# Altium integrated library ON Semi Digital Transistors (BRTs).IntLib: 470 symbols (part 11 of 11)
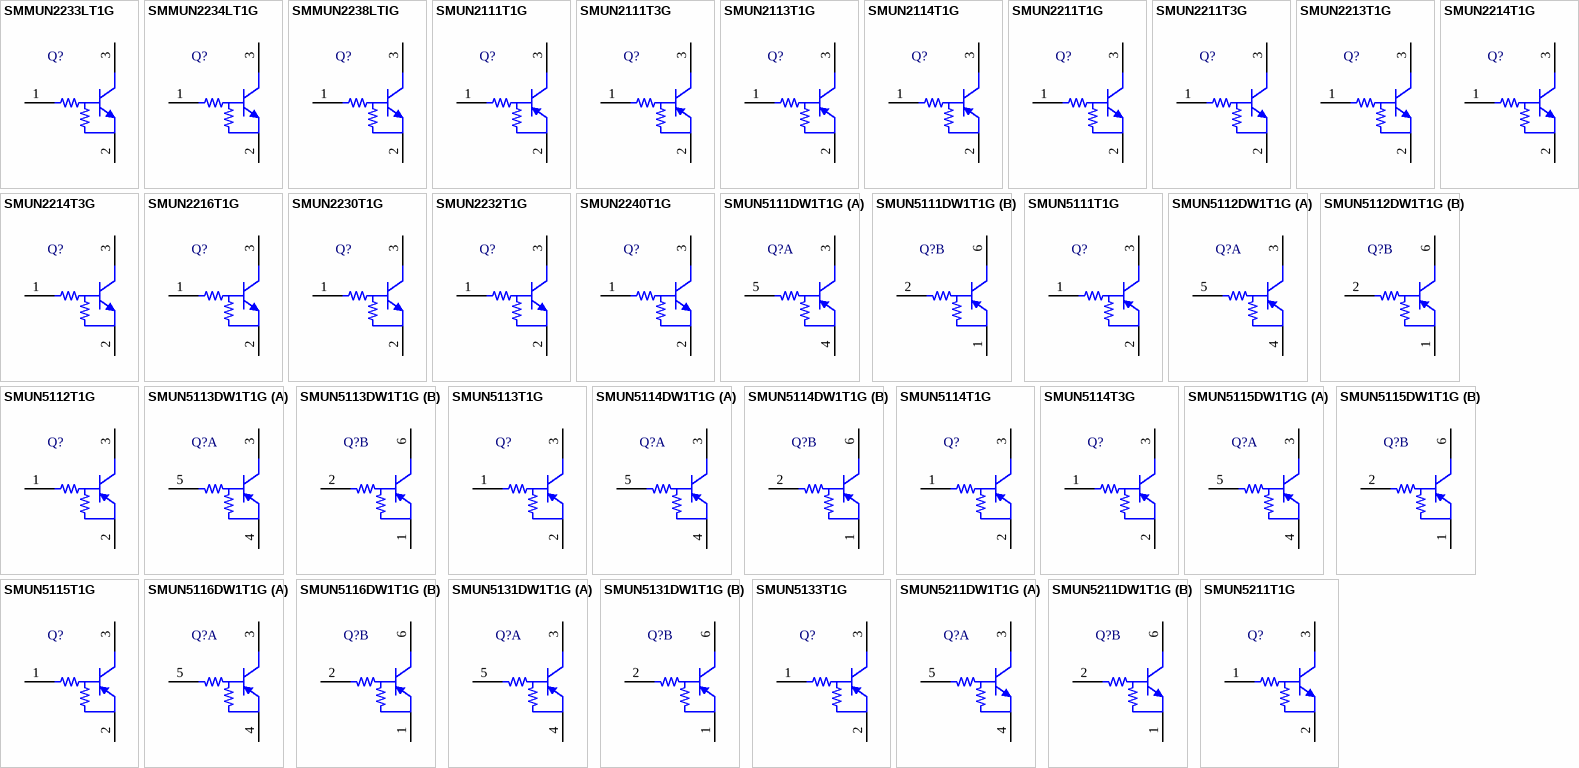
[diagram p26: symbols SMMUN2233LT1G to SMUN5211T1G]

## SMUN5113T1G
designator Q?
Digital Transistor (BRT), R1=47 kOhm, R2=47 kOhm, PNP Transistor, 3-Pin SC70, Pb-Free, Tape and Reel; Manufacturer: On Semiconductor; PartNumber: SMUN5113T1G; hFE Min: 80; IC Continuous (A): 0.1; R1/R2 Typ: 1; V(BR)CEO Min (V): 50; DatasheetVersion: Rev. 2; PackageVersion: Rev. N, 11/2008; PackageReference: SC-70-3-419-04; PackageDescription: 3-Pin Small Outline Transistor, Body 2 x 1.25 mm, Pitch 0.65 mm; Supplier 1: Digi-Key; Supplier Part Number 1: SMUN5113T1G-ND; Supplier 2: Mouser; Supplier Part Number 2: 863-SMUN5113T1G; Packing: Tape and Reel; Polarity: PNP; RoHS: TRUE; Mounting Technology: Surface Mount; ComponentLink1Description: Manufacturer URL; ComponentLink1URL: http://www.onsemi.com/; ComponentLink2Description: Datasheet; ComponentLink2URL: http://www.onsemi.cn/pub_link/Collateral/DTA144E-D.PDF; ComponentLink3Description: Package Specification; ComponentLink3URL: http://www.onsemi.cn/pub_link/Collateral/419-04.PDF
footprint ONSC-SC-70-3-419-04_V (SOT23, 3-Leads, Body 2x1.25mm, Pitch 0.65mm)
pins: 1 B, 2 E, 3 C

## SMUN5114DW1T1G
designator Q?
Dual PNP Bias Resistor Transistors, R1=10 kOhm, R2=47 kOhm, PNP Transistor, 6-Pin SOT-363, Pb-Free, Tape and Reel; Manufacturer: On Semiconductor; PartNumber: SMUN5114DW1T1G; hFE Min: 80; IC Continuous (A): 0.1; R1/R2 Typ: 0.21; V(BR)CEO Min (V): 50; DatasheetVersion: Rev. 0; PackageVersion: Rev. W, 01/2006; PackageReference: SOT-363-6-419B-02_W; PackageDescription: 6-Pin Small Outline Transistor, Body 2 x 1.25 mm, Pitch 0.65 mm; Supplier 1: Digi-Key; Supplier Part Number 1: SMUN5114DW1T1G-ND; Supplier 2: Mouser; Supplier Part Number 2: 863-SMUN5114DW1T1G; Packing: Tape and Reel; Polarity: Dual PNP; RoHS: TRUE; Mounting Technology: Surface Mount; ComponentLink1Description: Manufacturer URL; ComponentLink1URL: http://www.onsemi.com/; ComponentLink2Description: Datasheet; ComponentLink2URL: http://www.onsemi.cn/pub_link/Collateral/DTA114YD-D.PDF; ComponentLink3Description: Package Specification; ComponentLink3URL: http://www.onsemi.com/pub_link/Collateral/NTJD4001N-D.PDF
footprint ONSC-SOT-363-6-419B-02_W_V (SOT23, 6-Leads, Body 2x1.25mm, Pitch 0.65mm)
part A pins: 3 C, 4 E, 5 B
part B pins: 1 E, 2 B, 6 C

## SMUN5114T1G
designator Q?
Digital Transistor (BRT), R1=10 kOhm, R2=47 kOhm, PNP Transistor, 3-Pin SC70, Pb-Free, Tape and Reel; Manufacturer: On Semiconductor; PartNumber: SMUN5114T1G; hFE Min: 80; IC Continuous (A): 0.1; R1/R2 Typ: 0.21; V(BR)CEO Min (V): 50; DatasheetVersion: Rev. 2; PackageVersion: Rev. N, 11/2008; PackageReference: SC-70-3-419-04; PackageDescription: 3-Pin Small Outline Transistor, Body 2 x 1.25 mm, Pitch 0.65 mm; Supplier 1: Digi-Key; Supplier Part Number 1: SMUN5114T1G-ND; Supplier 2: Mouser; Supplier Part Number 2: 863-SMUN5114T1G; Packing: Tape and Reel; Polarity: PNP; RoHS: TRUE; Mounting Technology: Surface Mount; ComponentLink1Description: Manufacturer URL; ComponentLink1URL: http://www.onsemi.com/; ComponentLink2Description: Datasheet; ComponentLink2URL: http://www.onsemi.cn/pub_link/Collateral/DTA114Y-D.PDF; ComponentLink3Description: Package Specification; ComponentLink3URL: http://www.onsemi.cn/pub_link/Collateral/419-04.PDF
footprint ONSC-SC-70-3-419-04_V (SOT23, 3-Leads, Body 2x1.25mm, Pitch 0.65mm)
pins: 1 B, 2 E, 3 C

## SMUN5114T3G
designator Q?
Digital Transistor (BRT), R1=10 kOhm, R2=47 kOhm, PNP Transistor, 3-Pin SC70, Pb-Free, Tape and Reel; Manufacturer: On Semiconductor; PartNumber: SMUN5114T3G; hFE Min: 80; IC Continuous (A): 0.1; R1/R2 Typ: 0.21; V(BR)CEO Min (V): 50; DatasheetVersion: Rev. 2; PackageVersion: Rev. N, 11/2008; PackageReference: SC-70-3-419-04; PackageDescription: 3-Pin Small Outline Transistor, Body 2 x 1.25 mm, Pitch 0.65 mm; Supplier 1: Newark; Supplier Part Number 1: 11X3838; Supplier 2: Mouser; Supplier Part Number 2: 863-SMUN5114T3G; Packing: Tape and Reel; Polarity: PNP; RoHS: TRUE; Mounting Technology: Surface Mount; ComponentLink1Description: Manufacturer URL; ComponentLink1URL: http://www.onsemi.com/; ComponentLink2Description: Datasheet; ComponentLink2URL: http://www.onsemi.cn/pub_link/Collateral/DTA114Y-D.PDF; ComponentLink3Description: Package Specification; ComponentLink3URL: http://www.onsemi.cn/pub_link/Collateral/419-04.PDF
footprint ONSC-SC-70-3-419-04_V (SOT23, 3-Leads, Body 2x1.25mm, Pitch 0.65mm)
pins: 1 B, 2 E, 3 C

## SMUN5115DW1T1G
designator Q?
Dual PNP Bias Resistor Transistors, R1=10 kOhm, R2=infinity kOhm, PNP Transistor, 6-Pin SOT-363, Pb-Free, Tape and Reel; Manufacturer: On Semiconductor; PartNumber: SMUN5115DW1T1G; hFE Min: 160; IC Continuous (A): 0.1; V(BR)CEO Min (V): 50; DatasheetVersion: Rev. 0; PackageVersion: Rev. W, 01/2006; PackageReference: SOT-363-6-419B-02_W; PackageDescription: 6-Pin Small Outline Transistor, Body 2 x 1.25 mm, Pitch 0.65 mm; Supplier 1: Digi-Key; Supplier Part Number 1: SMUN5115DW1T1G-ND; Supplier 2: Mouser; Supplier Part Number 2: 863-SMUN5115DW1T1G; Packing: Tape and Reel; Polarity: Dual PNP; RoHS: TRUE; Mounting Technology: Surface Mount; ComponentLink1Description: Manufacturer URL; ComponentLink1URL: http://www.onsemi.com/; ComponentLink2Description: Datasheet; ComponentLink2URL: http://www.onsemi.cn/pub_link/Collateral/DTA114TD-D.PDF; ComponentLink3Description: Package Specification; ComponentLink3URL: http://www.onsemi.com/pub_link/Collateral/NTJD4001N-D.PDF
footprint ONSC-SOT-363-6-419B-02_W_V (SOT23, 6-Leads, Body 2x1.25mm, Pitch 0.65mm)
part A pins: 3 C, 4 E, 5 B
part B pins: 1 E, 2 B, 6 C

## SMUN5115T1G
designator Q?
Digital Transistor (BRT), R1=10 kOhm, R2=infinity kOhm, PNP Transistor, 3-Pin SC70, Pb-Free, Tape and Reel; Manufacturer: On Semiconductor; PartNumber: SMUN5115T1G; Note: 0; hFE Min: 160; IC Continuous (A): 0.1; V(BR)CEO Min (V): 50; DatasheetVersion: Rev. 2; PackageVersion: Rev. N, 11/2008; PackageReference: SC-70-3-419-04; PackageDescription: 3-Pin Small Outline Transistor, Body 2 x 1.25 mm, Pitch 0.65 mm; Packing: Tape and Reel; Polarity: PNP; RoHS: TRUE; Mounting Technology: Surface Mount; ComponentLink1Description: Manufacturer URL; ComponentLink1URL: http://www.onsemi.com/; ComponentLink2Description: Datasheet; ComponentLink2URL: http://www.onsemi.cn/pub_link/Collateral/DTA114T-D.PDF; ComponentLink3Description: Package Specification; ComponentLink3URL: http://www.onsemi.cn/pub_link/Collateral/419-04.PDF
footprint ONSC-SC-70-3-419-04_V (SOT23, 3-Leads, Body 2x1.25mm, Pitch 0.65mm)
pins: 1 B, 2 E, 3 C

## SMUN5116DW1T1G
designator Q?
Dual PNP Bias Resistor Transistors, R1=4.7 kOhm, R2=infinity kOhm, PNP Transistor, 6-Pin SOT-363, Pb-Free, Tape and Reel; Manufacturer: On Semiconductor; PartNumber: SMUN5116DW1T1G; hFE Min: 160; IC Continuous (A): 0.1; V(BR)CEO Min (V): 50; DatasheetVersion: Rev. 0; PackageVersion: Rev. W, 01/2006; PackageReference: SOT-363-6-419B-02_W; PackageDescription: 6-Pin Small Outline Transistor, Body 2 x 1.25 mm, Pitch 0.65 mm; Supplier 1: Digi-Key; Supplier Part Number 1: SMUN5116DW1T1G-ND; Supplier 2: Mouser; Supplier Part Number 2: 863-SMUN5116DW1T1G; Packing: Tape and Reel; Polarity: Dual PNP; RoHS: TRUE; Mounting Technology: Surface Mount; ComponentLink1Description: Manufacturer URL; ComponentLink1URL: http://www.onsemi.com/; ComponentLink2Description: Datasheet; ComponentLink2URL: http://www.onsemi.cn/pub_link/Collateral/DTA143TD-D.PDF; ComponentLink3Description: Package Specification; ComponentLink3URL: http://www.onsemi.com/pub_link/Collateral/NTJD4001N-D.PDF
footprint ONSC-SOT-363-6-419B-02_W_V (SOT23, 6-Leads, Body 2x1.25mm, Pitch 0.65mm)
part A pins: 3 C, 4 E, 5 B
part B pins: 1 E, 2 B, 6 C

## SMUN5131DW1T1G
designator Q?
Dual PNP Bias Resistor Transistors, R1=2.2 kOhm, R2=2.2 kOhm, PNP Transistor, 6-Pin SOT-363, Pb-Free, Tape and Reel; Manufacturer: On Semiconductor; PartNumber: SMUN5131DW1T1G; Note: 0; hFE Min: 8; IC Continuous (A): 0.1; R1/R2 Typ: 1; V(BR)CEO Min (V): 50; DatasheetVersion: Rev. 0; PackageVersion: Rev. W, 01/2006; PackageReference: SOT-363-6-419B-02_W; PackageDescription: 6-Pin Small Outline Transistor, Body 2 x 1.25 mm, Pitch 0.65 mm; Packing: Tape and Reel; Polarity: Dual PNP; RoHS: TRUE; Mounting Technology: Surface Mount; ComponentLink1Description: Manufacturer URL; ComponentLink1URL: http://www.onsemi.com/; ComponentLink2Description: Datasheet; ComponentLink2URL: http://www.onsemi.cn/pub_link/Collateral/DTA123ED-D.PDF; ComponentLink3Description: Package Specification; ComponentLink3URL: http://www.onsemi.com/pub_link/Collateral/NTJD4001N-D.PDF
footprint ONSC-SOT-363-6-419B-02_W_V (SOT23, 6-Leads, Body 2x1.25mm, Pitch 0.65mm)
part A pins: 3 C, 4 E, 5 B
part B pins: 1 E, 2 B, 6 C

## SMUN5133T1G
designator Q?
Digital Transistor (BRT), R1=4.7 kOhm, R2=47 kOhm, PNP Transistor, 3-Pin SC70, Pb-Free, Tape and Reel; Manufacturer: On Semiconductor; PartNumber: SMUN5133T1G; hFE Min: 80; IC Continuous (A): 0.1; V(BR)CEO Min (V): 50; DatasheetVersion: Rev. 6; PackageVersion: Rev. N, 11/2008; PackageReference: SC-70-3-419-04; PackageDescription: 3-Pin Small Outline Transistor, Body 2 x 1.25 mm, Pitch 0.65 mm; Supplier 1: Digi-Key; Supplier Part Number 1: SMUN5133T1G-ND; Supplier 2: Mouser; Supplier Part Number 2: 863-SMUN5133T1G; Packing: Tape and Reel; Polarity: PNP; R1/R2 Typ: 0.1; RoHS: TRUE; Mounting Technology: Surface Mount; ComponentLink1Description: Manufacturer URL; ComponentLink1URL: http://www.onsemi.com/; ComponentLink2Description: Datasheet; ComponentLink2URL: http://www.onsemi.cn/pub_link/Collateral/DTA143Z-D.PDF; ComponentLink3Description: Package Specification; ComponentLink3URL: http://www.onsemi.cn/pub_link/Collateral/419-04.PDF
footprint ONSC-SC-70-3-419-04_V (SOT23, 3-Leads, Body 2x1.25mm, Pitch 0.65mm)
pins: 1 B, 2 E, 3 C

## SMUN5211DW1T1G
designator Q?
Dual NPN Bias Resistor Transistors, R1=10 kOhm, R2=10 kOhm, NPN Transistor, 6-Pin SOT-363, Pb-Free, Tape and Reel; Manufacturer: On Semiconductor; PartNumber: SMUN5211DW1T1G; hFE Min: 35; IC Continuous (A): 0.1; R1/R2 Typ: 1; V(BR)CEO Min (V): 50; DatasheetVersion: Rev. 1; PackageVersion: Rev. Y, 12/2012; PackageReference: SOT-363-6-419B-02; PackageDescription: 6-Pin Small Outline Transistor, Body 2 x 1.25 mm, Pitch 0.65 mm; Supplier 1: Digi-Key; Supplier Part Number 1: SMUN5211DW1T1G-ND; Supplier 2: Newark; Supplier Part Number 2: 76T7363; Supplier 3: Mouser; Supplier Part Number 3: 863-SMUN5211DW1T1G; Packing: Tape and Reel; Polarity: Dual NPN; RoHS: TRUE; Mounting Technology: Surface Mount; ComponentLink1Description: Manufacturer URL; ComponentLink1URL: http://www.onsemi.com/; ComponentLink2Description: Datasheet; ComponentLink2URL: http://www.onsemi.cn/pub_link/Collateral/DTC114ED-D.PDF; ComponentLink3Description: Package Specification; ComponentLink3URL: http://www.onsemi.cn/pub_link/Collateral/419B-02.PDF
footprint ONSC-SOT-363-6-419B-02_V (SOT23, 6-Leads, Body 2x1.25mm, Pitch 0.65mm)
part A pins: 3 C, 4 E, 5 B
part B pins: 1 E, 2 B, 6 C

## SMUN5211T1G
designator Q?
Digital Transistor (BRT), R1=10 kOhm, R2=10 kOhm, NPN Transistor, 3-Pin SC70, Pb-Free, Tape and Reel; Manufacturer: On Semiconductor; PartNumber: SMUN5211T1G; hFE Min: 35; IC Continuous (A): 0.1; R1/R2 Typ: 1; V(BR)CEO Min (V): 50; DatasheetVersion: Rev. 5; PackageVersion: Rev. N, 11/2008; PackageReference: SC-70-3-419-04; PackageDescription: 3-Pin Small Outline Transistor, Body 2 x 1.25 mm, Pitch 0.65 mm; Supplier 1: Digi-Key; Supplier Part Number 1: SMUN5211T1G-ND; Supplier 2: Mouser; Supplier Part Number 2: 863-SMUN5211T1G; Packing: Tape and Reel; Polarity: NPN; RoHS: TRUE; Mounting Technology: Surface Mount; ComponentLink1Description: Manufacturer URL; ComponentLink1URL: http://www.onsemi.com/; ComponentLink2Description: Datasheet; ComponentLink2URL: http://www.onsemi.cn/pub_link/Collateral/DTC114E-D.PDF; ComponentLink3Description: Package Specification; ComponentLink3URL: http://www.onsemi.cn/pub_link/Collateral/419-04.PDF
footprint ONSC-SC-70-3-419-04_V (SOT23, 3-Leads, Body 2x1.25mm, Pitch 0.65mm)
pins: 1 B, 2 E, 3 C

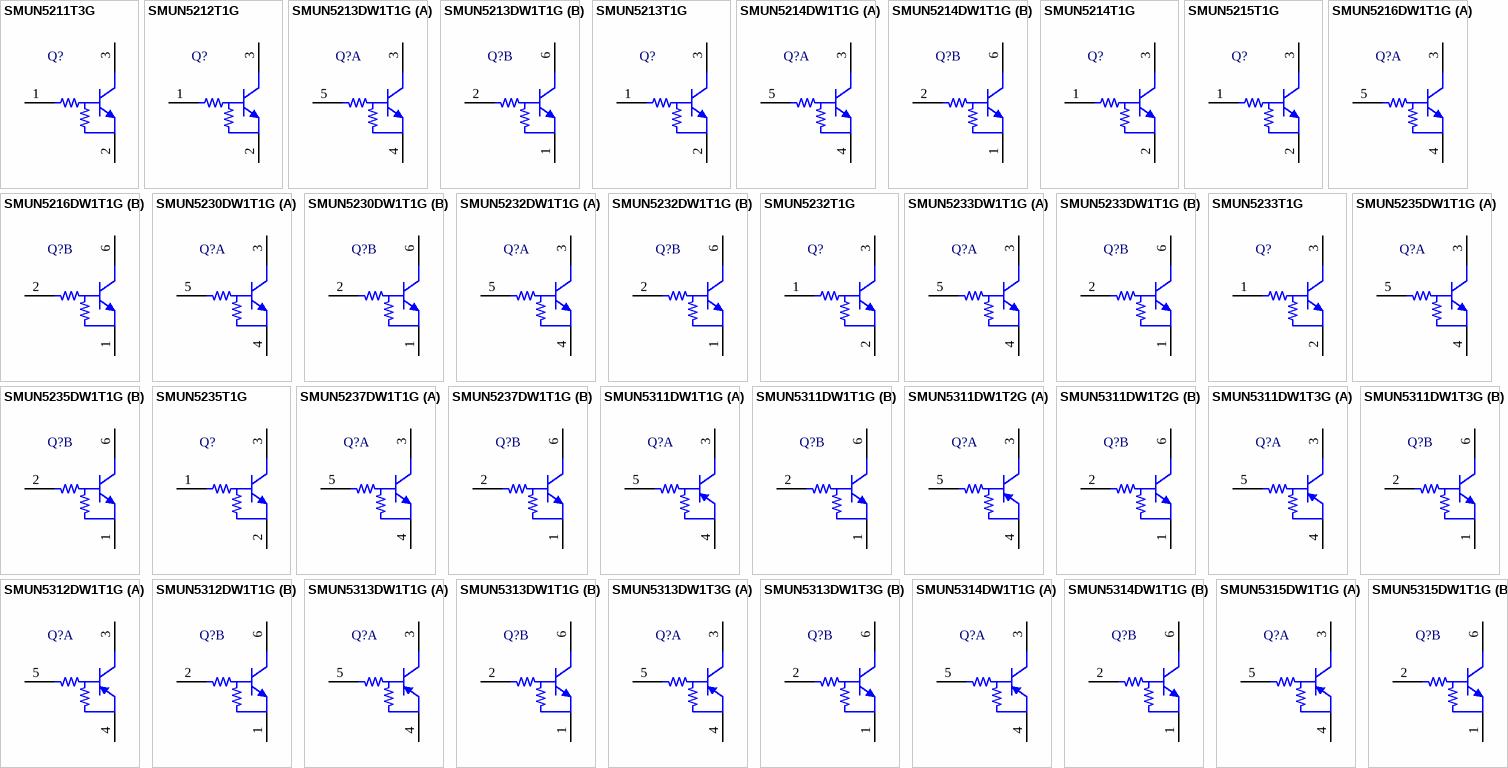
[diagram p15: symbols SMUN5211T3G to SMUN5315DW1T1G]

## SMUN5211T3G
designator Q?
Digital Transistor (BRT), R1=10 kOhm, R2=10 kOhm, NPN Transistor, 3-Pin SC70, Pb-Free, Tape and Reel; Manufacturer: On Semiconductor; PartNumber: SMUN5211T3G; hFE Min: 35; IC Continuous (A): 0.1; R1/R2 Typ: 1; V(BR)CEO Min (V): 50; DatasheetVersion: Rev. 5; PackageVersion: Rev. N, 11/2008; PackageReference: SC-70-3-419-04; PackageDescription: 3-Pin Small Outline Transistor, Body 2 x 1.25 mm, Pitch 0.65 mm; Supplier 1: Digi-Key; Supplier Part Number 1: SMUN5211T3G-ND; Supplier 2: Newark; Supplier Part Number 2: 76T7365; Supplier 3: Mouser; Supplier Part Number 3: 863-SMUN5211T3G; Packing: Tape and Reel; Polarity: NPN; RoHS: TRUE; Mounting Technology: Surface Mount; ComponentLink1Description: Manufacturer URL; ComponentLink1URL: http://www.onsemi.com/; ComponentLink2Description: Datasheet; ComponentLink2URL: http://www.onsemi.cn/pub_link/Collateral/DTC114E-D.PDF; ComponentLink3Description: Package Specification; ComponentLink3URL: http://www.onsemi.cn/pub_link/Collateral/419-04.PDF
footprint ONSC-SC-70-3-419-04_V (SOT23, 3-Leads, Body 2x1.25mm, Pitch 0.65mm)
pins: 1 B, 2 E, 3 C

## SMUN5212T1G
designator Q?
Digital Transistor (BRT), R1=22 kOhm, R2=22 kOhm, NPN Transistor, 3-Pin SC70, Pb-Free, Tape and Reel; Manufacturer: On Semiconductor; PartNumber: SMUN5212T1G; hFE Min: 60; IC Continuous (A): 0.1; R1/R2 Typ: 1; V(BR)CEO Min (V): 50; DatasheetVersion: Rev. 2; PackageVersion: Rev. N, 11/2008; PackageReference: SC-70-3-419-04; PackageDescription: 3-Pin Small Outline Transistor, Body 2 x 1.25 mm, Pitch 0.65 mm; Supplier 1: Digi-Key; Supplier Part Number 1: SMUN5212T1G-ND; Supplier 2: Newark; Supplier Part Number 2: 76T7366; Supplier 3: Mouser; Supplier Part Number 3: 863-SMUN5212T1G; Packing: Tape and Reel; Polarity: NPN; RoHS: TRUE; Mounting Technology: Surface Mount; ComponentLink1Description: Manufacturer URL; ComponentLink1URL: http://www.onsemi.com/; ComponentLink2Description: Datasheet; ComponentLink2URL: http://www.onsemi.cn/pub_link/Collateral/DTC124E-D.PDF; ComponentLink3Description: Package Specification; ComponentLink3URL: http://www.onsemi.cn/pub_link/Collateral/419-04.PDF
footprint ONSC-SC-70-3-419-04_V (SOT23, 3-Leads, Body 2x1.25mm, Pitch 0.65mm)
pins: 1 B, 2 E, 3 C

## SMUN5213DW1T1G
designator Q?
Dual NPN Bias Resistor Transistors, R1=47 kOhm, R2=47 kOhm, NPN Transistor, 6-Pin SOT-363, Pb-Free, Tape and Reel; Manufacturer: On Semiconductor; PartNumber: SMUN5213DW1T1G; hFE Min: 80; IC Continuous (A): 0.1; R1/R2 Typ: 1; V(BR)CEO Min (V): 50; DatasheetVersion: Rev. 0; PackageVersion: Rev. W, 01/2006; PackageReference: SOT-363-6-419B-02_W; PackageDescription: 6-Pin Small Outline Transistor, Body 2 x 1.25 mm, Pitch 0.65 mm; Supplier 1: Digi-Key; Supplier Part Number 1: SMUN5213DW1T1G-ND; Supplier 2: Mouser; Supplier Part Number 2: 863-SMUN5213DW1T1G; Packing: Tape and Reel; Polarity: Dual NPN; RoHS: TRUE; Mounting Technology: Surface Mount; ComponentLink1Description: Manufacturer URL; ComponentLink1URL: http://www.onsemi.com/; ComponentLink2Description: Datasheet; ComponentLink2URL: http://www.onsemi.cn/pub_link/Collateral/DTC144ED-D.PDF; ComponentLink3Description: Package Specification; ComponentLink3URL: http://www.onsemi.com/pub_link/Collateral/NTJD4001N-D.PDF
footprint ONSC-SOT-363-6-419B-02_W_V (SOT23, 6-Leads, Body 2x1.25mm, Pitch 0.65mm)
part A pins: 3 C, 4 E, 5 B
part B pins: 1 E, 2 B, 6 C

## SMUN5213T1G
designator Q?
Digital Transistor (BRT), R1=47 kOhm, R2=47 kOhm, NPN Transistor, 3-Pin SC70, Pb-Free, Tape and Reel; Manufacturer: On Semiconductor; PartNumber: SMUN5213T1G; hFE Min: 80; IC Continuous (A): 0.1; R1/R2 Typ: 1; V(BR)CEO Min (V): 50; DatasheetVersion: Rev. 2; PackageVersion: Rev. N, 11/2008; PackageReference: SC-70-3-419-04; PackageDescription: 3-Pin Small Outline Transistor, Body 2 x 1.25 mm, Pitch 0.65 mm; Supplier 1: Digi-Key; Supplier Part Number 1: SMUN5213T1G-ND; Supplier 2: Mouser; Supplier Part Number 2: 863-SMUN5213T1G; Packing: Tape and Reel; Polarity: NPN; RoHS: TRUE; Mounting Technology: Surface Mount; ComponentLink1Description: Manufacturer URL; ComponentLink1URL: http://www.onsemi.com/; ComponentLink2Description: Datasheet; ComponentLink2URL: http://www.onsemi.cn/pub_link/Collateral/DTC144E-D.PDF; ComponentLink3Description: Package Specification; ComponentLink3URL: http://www.onsemi.cn/pub_link/Collateral/419-04.PDF
footprint ONSC-SC-70-3-419-04_V (SOT23, 3-Leads, Body 2x1.25mm, Pitch 0.65mm)
pins: 1 B, 2 E, 3 C

## SMUN5214DW1T1G
designator Q?
Dual NPN Bias Resistor Transistors, R1=10 kOhm, R2=47 kOhm, NPN Transistor, 6-Pin SOT-363, Pb-Free, Tape and Reel; Manufacturer: On Semiconductor; PartNumber: SMUN5214DW1T1G; hFE Min: 80; IC Continuous (A): 0.1; R1/R2 Typ: 0.21; V(BR)CEO Min (V): 50; DatasheetVersion: Rev. 0; PackageVersion: Rev. W, 01/2006; PackageReference: SOT-363-6-419B-02_W; PackageDescription: 6-Pin Small Outline Transistor, Body 2 x 1.25 mm, Pitch 0.65 mm; Supplier 1: Digi-Key; Supplier Part Number 1: SMUN5214DW1T1G-ND; Supplier 2: Mouser; Supplier Part Number 2: 863-SMUN5214DW1T1G; Packing: Tape and Reel; Polarity: Dual NPN; RoHS: TRUE; Mounting Technology: Surface Mount; ComponentLink1Description: Manufacturer URL; ComponentLink1URL: http://www.onsemi.com/; ComponentLink2Description: Datasheet; ComponentLink2URL: http://www.onsemi.cn/pub_link/Collateral/DTC114YD-D.PDF; ComponentLink3Description: Package Specification; ComponentLink3URL: http://www.onsemi.com/pub_link/Collateral/NTJD4001N-D.PDF
footprint ONSC-SOT-363-6-419B-02_W_V (SOT23, 6-Leads, Body 2x1.25mm, Pitch 0.65mm)
part A pins: 3 C, 4 E, 5 B
part B pins: 1 E, 2 B, 6 C

## SMUN5214T1G
designator Q?
Digital Transistor (BRT), R1=10 kOhm, R2=47 kOhm, NPN Transistor, 3-Pin SC70, Pb-Free, Tape and Reel; Manufacturer: On Semiconductor; PartNumber: SMUN5214T1G; hFE Min: 80; IC Continuous (A): 0.1; R1/R2 Typ: 0.21; V(BR)CEO Min (V): 50; DatasheetVersion: Rev. 3; PackageVersion: Rev. N, 11/2008; PackageReference: SC-70-3-419-04; PackageDescription: 3-Pin Small Outline Transistor, Body 2 x 1.25 mm, Pitch 0.65 mm; Supplier 1: Digi-Key; Supplier Part Number 1: SMUN5214T1G-ND; Supplier 2: Mouser; Supplier Part Number 2: 863-SMUN5214T1G; Packing: Tape and Reel; Polarity: NPN; RoHS: TRUE; Mounting Technology: Surface Mount; ComponentLink1Description: Manufacturer URL; ComponentLink1URL: http://www.onsemi.com/; ComponentLink2Description: Datasheet; ComponentLink2URL: http://www.onsemi.cn/pub_link/Collateral/DTC114Y-D.PDF; ComponentLink3Description: Package Specification; ComponentLink3URL: http://www.onsemi.cn/pub_link/Collateral/419-04.PDF
footprint ONSC-SC-70-3-419-04_V (SOT23, 3-Leads, Body 2x1.25mm, Pitch 0.65mm)
pins: 1 B, 2 E, 3 C

## SMUN5215T1G
designator Q?
Digital Transistor (BRT), R1=10 kOhm, R2=infinity kOhm, NPN Transistor, 3-Pin SC70, Pb-Free, Tape and Reel; Manufacturer: On Semiconductor; PartNumber: SMUN5215T1G; Note: 0; hFE Min: 160; IC Continuous (A): 0.1; V(BR)CEO Min (V): 50; DatasheetVersion: Rev. 1; PackageVersion: Rev. N, 11/2008; PackageReference: SC-70-3-419-04; PackageDescription: 3-Pin Small Outline Transistor, Body 2 x 1.25 mm, Pitch 0.65 mm; Packing: Tape and Reel; Polarity: NPN; RoHS: TRUE; Mounting Technology: Surface Mount; ComponentLink1Description: Manufacturer URL; ComponentLink1URL: http://www.onsemi.com/; ComponentLink2Description: Datasheet; ComponentLink2URL: http://www.onsemi.cn/pub_link/Collateral/DTC114T-D.PDF; ComponentLink3Description: Package Specification; ComponentLink3URL: http://www.onsemi.cn/pub_link/Collateral/419-04.PDF
footprint ONSC-SC-70-3-419-04_V (SOT23, 3-Leads, Body 2x1.25mm, Pitch 0.65mm)
pins: 1 B, 2 E, 3 C

## SMUN5216DW1T1G
designator Q?
Dual NPN Bias Resistor Transistors, R1=4.7 kOhm, R2=infinity kOhm, NPN Transistor, 6-Pin SOT-363, Pb-Free, Tape and Reel; Manufacturer: On Semiconductor; PartNumber: SMUN5216DW1T1G; hFE Min: 160; IC Continuous (A): 0.1; V(BR)CEO Min (V): 50; DatasheetVersion: Rev. 0; PackageVersion: Rev. W, 01/2006; PackageReference: SOT-363-6-419B-02_W; PackageDescription: 6-Pin Small Outline Transistor, Body 2 x 1.25 mm, Pitch 0.65 mm; Supplier 1: Digi-Key; Supplier Part Number 1: SMUN5216DW1T1G-ND; Supplier 2: Mouser; Supplier Part Number 2: 863-SMUN5216DW1T1G; Packing: Tape and Reel; Polarity: Dual NPN; RoHS: TRUE; Mounting Technology: Surface Mount; ComponentLink1Description: Manufacturer URL; ComponentLink1URL: http://www.onsemi.com/; ComponentLink2Description: Datasheet; ComponentLink2URL: http://www.onsemi.cn/pub_link/Collateral/DTC143TD-D.PDF; ComponentLink3Description: Package Specification; ComponentLink3URL: http://www.onsemi.com/pub_link/Collateral/NTJD4001N-D.PDF
footprint ONSC-SOT-363-6-419B-02_W_V (SOT23, 6-Leads, Body 2x1.25mm, Pitch 0.65mm)
part A pins: 3 C, 4 E, 5 B
part B pins: 1 E, 2 B, 6 C

## SMUN5230DW1T1G
designator Q?
Dual NPN Bias Resistor Transistors, R1=1 kOhm, R2=1 kOhm, NPN Transistor, 6-Pin SOT-363, Pb-Free, Tape and Reel; Manufacturer: On Semiconductor; PartNumber: SMUN5230DW1T1G; hFE Min: 3; IC Continuous (A): 0.1; R1/R2 Typ: 1; V(BR)CEO Min (V): 50; DatasheetVersion: Rev. 0; PackageVersion: Rev. W, 01/2006; PackageReference: SOT-363-6-419B-02_W; PackageDescription: 6-Pin Small Outline Transistor, Body 2 x 1.25 mm, Pitch 0.65 mm; Supplier 1: Digi-Key; Supplier Part Number 1: SMUN5230DW1T1G-ND; Supplier 2: Mouser; Supplier Part Number 2: 863-SMUN5230DW1T1G; Packing: Tape and Reel; Polarity: Dual NPN; RoHS: TRUE; Mounting Technology: Surface Mount; ComponentLink1Description: Manufacturer URL; ComponentLink1URL: http://www.onsemi.com/; ComponentLink2Description: Datasheet; ComponentLink2URL: http://www.onsemi.cn/pub_link/Collateral/DTC113ED-D.PDF; ComponentLink3Description: Package Specification; ComponentLink3URL: http://www.onsemi.com/pub_link/Collateral/NTJD4001N-D.PDF
footprint ONSC-SOT-363-6-419B-02_W_V (SOT23, 6-Leads, Body 2x1.25mm, Pitch 0.65mm)
part A pins: 3 C, 4 E, 5 B
part B pins: 1 E, 2 B, 6 C

## SMUN5232DW1T1G
designator Q?
Dual NPN Bias Resistor Transistors, R1=4.7 kOhm, R2=4.7 kOhm, NPN Transistor, 6-Pin SOT-363, Pb-Free, Tape and Reel; Manufacturer: On Semiconductor; PartNumber: SMUN5232DW1T1G; hFE Min: 15; IC Continuous (A): 0.1; R1/R2 Typ: 1; V(BR)CEO Min (V): 50; DatasheetVersion: Rev. 0; PackageVersion: Rev. W, 01/2006; PackageReference: SOT-363-6-419B-02_W; PackageDescription: 6-Pin Small Outline Transistor, Body 2 x 1.25 mm, Pitch 0.65 mm; Supplier 1: Digi-Key; Supplier Part Number 1: SMUN5232DW1T1G-ND; Supplier 2: Mouser; Supplier Part Number 2: 863-SMUN5232DW1T1G; Packing: Tape and Reel; Polarity: Dual NPN; RoHS: TRUE; Mounting Technology: Surface Mount; ComponentLink1Description: Manufacturer URL; ComponentLink1URL: http://www.onsemi.com/; ComponentLink2Description: Datasheet; ComponentLink2URL: http://www.onsemi.cn/pub_link/Collateral/DTC143ED-D.PDF; ComponentLink3Description: Package Specification; ComponentLink3URL: http://www.onsemi.com/pub_link/Collateral/NTJD4001N-D.PDF
footprint ONSC-SOT-363-6-419B-02_W_V (SOT23, 6-Leads, Body 2x1.25mm, Pitch 0.65mm)
part A pins: 3 C, 4 E, 5 B
part B pins: 1 E, 2 B, 6 C

## SMUN5232T1G
designator Q?
Digital Transistor (BRT), R1=4.7 kOhm, R2=4.7 kOhm, NPN Transistor, 3-Pin SC70, Pb-Free, Tape and Reel; Manufacturer: On Semiconductor; PartNumber: SMUN5232T1G; hFE Min: 15; IC Continuous (A): 0.1; R1/R2 Typ: 1; V(BR)CEO Min (V): 50; DatasheetVersion: Rev. 2; PackageVersion: Rev. N, 11/2008; PackageReference: SC-70-3-419-04; PackageDescription: 3-Pin Small Outline Transistor, Body 2 x 1.25 mm, Pitch 0.65 mm; Supplier 1: Digi-Key; Supplier Part Number 1: SMUN5232T1G-ND; Supplier 2: Mouser; Supplier Part Number 2: 863-SMUN5232T1G; Packing: Tape and Reel; Polarity: NPN; RoHS: TRUE; Mounting Technology: Surface Mount; ComponentLink1Description: Manufacturer URL; ComponentLink1URL: http://www.onsemi.com/; ComponentLink2Description: Datasheet; ComponentLink2URL: http://www.onsemi.cn/pub_link/Collateral/DTC143E-D.PDF; ComponentLink3Description: Package Specification; ComponentLink3URL: http://www.onsemi.cn/pub_link/Collateral/419-04.PDF
footprint ONSC-SC-70-3-419-04_V (SOT23, 3-Leads, Body 2x1.25mm, Pitch 0.65mm)
pins: 1 B, 2 E, 3 C

## SMUN5233DW1T1G
designator Q?
Dual NPN Bias Resistor Transistors, R1=4.7 kOhm, R2=47 kOhm, NPN Transistor, 6-Pin SOT-363, Pb-Free, Tape and Reel; Manufacturer: On Semiconductor; PartNumber: SMUN5233DW1T1G; hFE Min: 80; IC Continuous (A): 0.1; V(BR)CEO Min (V): 50; DatasheetVersion: Rev. 1; PackageVersion: Rev. W, 01/2006; PackageReference: SOT-363-6-419B-02_W; PackageDescription: 6-Pin Small Outline Transistor, Body 2 x 1.25 mm, Pitch 0.65 mm; Supplier 1: Digi-Key; Supplier Part Number 1: SMUN5233DW1T1G-ND; Supplier 2: Mouser; Supplier Part Number 2: 863-SMUN5233DW1T1G; Packing: Tape and Reel; Polarity: Dual NPN; R1/R2 Typ: 0.1; RoHS: TRUE; Mounting Technology: Surface Mount; ComponentLink1Description: Manufacturer URL; ComponentLink1URL: http://www.onsemi.com/; ComponentLink2Description: Datasheet; ComponentLink2URL: http://www.onsemi.cn/pub_link/Collateral/DTC143ZD-D.PDF; ComponentLink3Description: Package Specification; ComponentLink3URL: http://www.onsemi.com/pub_link/Collateral/NTJD4001N-D.PDF
footprint ONSC-SOT-363-6-419B-02_W_V (SOT23, 6-Leads, Body 2x1.25mm, Pitch 0.65mm)
part A pins: 3 C, 4 E, 5 B
part B pins: 1 E, 2 B, 6 C

## SMUN5233T1G
designator Q?
Digital Transistor (BRT), R1=4.7 kOhm, R2=47 kOhm, NPN Transistor, 3-Pin SC70, Pb-Free, Tape and Reel; Manufacturer: On Semiconductor; PartNumber: SMUN5233T1G; hFE Min: 80; IC Continuous (A): 0.1; V(BR)CEO Min (V): 50; DatasheetVersion: Rev. 4; PackageVersion: Rev. N, 11/2008; PackageReference: SC-70-3-419-04; PackageDescription: 3-Pin Small Outline Transistor, Body 2 x 1.25 mm, Pitch 0.65 mm; Supplier 1: Digi-Key; Supplier Part Number 1: SMUN5233T1G-ND; Supplier 2: Mouser; Supplier Part Number 2: 863-SMUN5233T1G; Packing: Tape and Reel; Polarity: NPN; R1/R2 Typ: 0.1; RoHS: TRUE; Mounting Technology: Surface Mount; ComponentLink1Description: Manufacturer URL; ComponentLink1URL: http://www.onsemi.com/; ComponentLink2Description: Datasheet; ComponentLink2URL: http://www.onsemi.cn/pub_link/Collateral/DTC143Z-D.PDF; ComponentLink3Description: Package Specification; ComponentLink3URL: http://www.onsemi.cn/pub_link/Collateral/419-04.PDF
footprint ONSC-SC-70-3-419-04_V (SOT23, 3-Leads, Body 2x1.25mm, Pitch 0.65mm)
pins: 1 B, 2 E, 3 C

## SMUN5235DW1T1G
designator Q?
Dual NPN Bias Resistor Transistors, R1=2.2 kOhm, R2=47 kOhm, NPN Transistors, 6-Pin SOT-363, Pb-Free, Tape and Reel; Manufacturer: On Semiconductor; PartNumber: SMUN5235DW1T1G; hFE Min: 80; IC Continuous (A): 0.1; R1/R2 Typ: 0.047; V(BR)CEO Min (V): 50; DatasheetVersion: Rev. 0; PackageVersion: Rev. W, 01/2006; PackageReference: SOT-363-6-419B-02_W; PackageDescription: 6-Pin Small Outline Transistor, Body 2 x 1.25 mm, Pitch 0.65 mm; Supplier 1: Digi-Key; Supplier Part Number 1: SMUN5235DW1T1G-ND; Supplier 2: Mouser; Supplier Part Number 2: 863-SMUN5235DW1T1G; Packing: Tape and Reel; Polarity: Dual NPN; RoHS: TRUE; Mounting Technology: Surface Mount; ComponentLink1Description: Manufacturer URL; ComponentLink1URL: http://www.onsemi.com/; ComponentLink2Description: Datasheet; ComponentLink2URL: http://www.onsemi.cn/pub_link/Collateral/DTC123JD-D.PDF; ComponentLink3Description: Package Specification; ComponentLink3URL: http://www.onsemi.com/pub_link/Collateral/NTJD4001N-D.PDF
footprint ONSC-SOT-363-6-419B-02_W_V (SOT23, 6-Leads, Body 2x1.25mm, Pitch 0.65mm)
part A pins: 3 C, 4 E, 5 B
part B pins: 1 E, 2 B, 6 C

## SMUN5235T1G
designator Q?
Digital Transistor (BRT), R1=2.2 kOhm, R2=47 kOhm, NPN Transistor, 3-Pin SC70, Pb-Free, Tape and Reel; Manufacturer: On Semiconductor; PartNumber: SMUN5235T1G; hFE Min: 80; IC Continuous (A): 0.1; R1/R2 Typ: 0.047; V(BR)CEO Min (V): 50; DatasheetVersion: Rev. 1; PackageVersion: Rev. N, 11/2008; PackageReference: SC-70-3-419-04; PackageDescription: 3-Pin Small Outline Transistor, Body 2 x 1.25 mm, Pitch 0.65 mm; Supplier 1: Digi-Key; Supplier Part Number 1: SMUN5235T1G-ND; Supplier 2: Mouser; Supplier Part Number 2: 863-SMUN5235T1G; Packing: Tape and Reel; Polarity: NPN; RoHS: TRUE; Mounting Technology: Surface Mount; ComponentLink1Description: Manufacturer URL; ComponentLink1URL: http://www.onsemi.com/; ComponentLink2Description: Datasheet; ComponentLink2URL: http://www.onsemi.cn/pub_link/Collateral/DTC123J-D.PDF; ComponentLink3Description: Package Specification; ComponentLink3URL: http://www.onsemi.cn/pub_link/Collateral/419-04.PDF
footprint ONSC-SC-70-3-419-04_V (SOT23, 3-Leads, Body 2x1.25mm, Pitch 0.65mm)
pins: 1 B, 2 E, 3 C

## SMUN5237DW1T1G
designator Q?
Dual NPN Bias Resistor Transistors, R1=47 kOhm, R2=22 kOhm, NPN Transistor, 6-Pin SOT-363, Pb-Free, Tape and Reel; Manufacturer: On Semiconductor; PartNumber: SMUN5237DW1T1G; hFE Min: 80; IC Continuous (A): 0.1; R1/R2 Typ: 2.1; V(BR)CEO Min (V): 50; DatasheetVersion: Rev. 0; PackageVersion: Rev. W, 01/2006; PackageReference: SOT-363-6-419B-02_W; PackageDescription: 6-Pin Small Outline Transistor, Body 2 x 1.25 mm, Pitch 0.65 mm; Supplier 1: Digi-Key; Supplier Part Number 1: SMUN5237DW1T1G-ND; Supplier 2: Mouser; Supplier Part Number 2: 863-SMUN5237DW1T1G; Packing: Tape and Reel; Polarity: Dual NPN; RoHS: TRUE; Mounting Technology: Surface Mount; ComponentLink1Description: Manufacturer URL; ComponentLink1URL: http://www.onsemi.com/; ComponentLink2Description: Datasheet; ComponentLink2URL: http://www.onsemi.cn/pub_link/Collateral/DTC144WD-D.PDF; ComponentLink3Description: Package Specification; ComponentLink3URL: http://www.onsemi.com/pub_link/Collateral/NTJD4001N-D.PDF
footprint ONSC-SOT-363-6-419B-02_W_V (SOT23, 6-Leads, Body 2x1.25mm, Pitch 0.65mm)
part A pins: 3 C, 4 E, 5 B
part B pins: 1 E, 2 B, 6 C

## SMUN5311DW1T1G
designator Q?
Complementary Bias Resistor Transistors, R1=47 kOhm, R2=22 kOhm, NPN and PNP Transistors, 6-Pin SOT-363, Pb-Free, Tape and Reel; Manufacturer: On Semiconductor; PartNumber: SMUN5311DW1T1G; hFE Min: 35; IC Continuous (A): 0.1; R1/R2 Typ: 1; V(BR)CEO Min (V): 50; DatasheetVersion: Rev. 1; PackageVersion: Rev. W, 01/2006; PackageReference: SOT-363-6-419B-02_W; PackageDescription: 6-Pin Small Outline Transistor, Body 2 x 1.25 mm, Pitch 0.65 mm; Supplier 1: Digi-Key; Supplier Part Number 1: SMUN5311DW1T1GOSTR-ND; Supplier 2: Digi-Key; Supplier Part Number 2: SMUN5311DW1T1GOSCT-ND; Supplier 3: Digi-Key; Supplier Part Number 3: SMUN5311DW1T1GOSDKR-ND; Supplier 4: Newark; Supplier Part Number 4: 76T7379; Supplier 5: Mouser; Supplier Part Number 5: 863-SMUN5311DW1T1G; Packing: Tape and Reel; Polarity: Complementary; RoHS: TRUE; Mounting Technology: Surface Mount; ComponentLink1Description: Manufacturer URL; ComponentLink1URL: http://www.onsemi.com/; ComponentLink2Description: Datasheet; ComponentLink2URL: http://www.onsemi.cn/pub_link/Collateral/DTC114EP-D.PDF; ComponentLink3Description: Package Specification; ComponentLink3URL: http://www.onsemi.com/pub_link/Collateral/NTJD4001N-D.PDF
footprint ONSC-SOT-363-6-419B-02_W_V (SOT23, 6-Leads, Body 2x1.25mm, Pitch 0.65mm)
part A pins: 3 C, 4 E, 5 B
part B pins: 1 E, 2 B, 6 C

## SMUN5311DW1T2G
designator Q?
Complementary NPN and PNP Transistors, R1=10 kOhm, R2=10 kOhm, 6-Pin SOT-363, Pb-Free, Tape and Reel; Manufacturer: On Semiconductor; PartNumber: SMUN5311DW1T2G; hFE Min: 35; IC Continuous (A): 0.1; R1/R2 Typ: 1; V(BR)CEO Min (V): 50; DatasheetVersion: Rev. 1; PackageVersion: Rev. W, 01/2006; PackageReference: SOT-363-6-419B-02_W; PackageDescription: 6-Pin Small Outline Transistor, Body 2 x 1.25 mm, Pitch 0.65 mm; Supplier 1: Digi-Key; Supplier Part Number 1: SMUN5311DW1T2G-ND; Supplier 2: Newark; Supplier Part Number 2: 76T7380; Supplier 3: Mouser; Supplier Part Number 3: 863-SMUN5311DW1T2G; Packing: Tape and Reel; Polarity: Complementary; RoHS: TRUE; Mounting Technology: Surface Mount; ComponentLink1Description: Manufacturer URL; ComponentLink1URL: http://www.onsemi.com/; ComponentLink2Description: Datasheet; ComponentLink2URL: http://www.onsemi.cn/pub_link/Collateral/DTC114EP-D.PDF; ComponentLink3Description: Package Specification; ComponentLink3URL: http://www.onsemi.com/pub_link/Collateral/NTJD4001N-D.PDF
footprint ONSC-SOT-363-6-419B-02_W_V (SOT23, 6-Leads, Body 2x1.25mm, Pitch 0.65mm)
part A pins: 3 C, 4 E, 5 B
part B pins: 1 E, 2 B, 6 C

## SMUN5311DW1T3G
designator Q?
Complementary NPN and PNP Transistors, R1=10 kOhm, R2=10 kOhm, 6-Pin SOT-363, Pb-Free, Tape and Reel; Manufacturer: On Semiconductor; PartNumber: SMUN5311DW1T3G; hFE Min: 35; IC Continuous (A): 0.1; R1/R2 Typ: 1; V(BR)CEO Min (V): 50; DatasheetVersion: Rev. 1; PackageVersion: Rev. W, 01/2006; PackageReference: SOT-363-6-419B-02_W; PackageDescription: 6-Pin Small Outline Transistor, Body 2 x 1.25 mm, Pitch 0.65 mm; Supplier 1: Newark; Supplier Part Number 1: 11X3839; Supplier 2: Mouser; Supplier Part Number 2: 863-SMUN5311DW1T3G; Packing: Tape and Reel; Polarity: Complementary; RoHS: TRUE; Mounting Technology: Surface Mount; ComponentLink1Description: Manufacturer URL; ComponentLink1URL: http://www.onsemi.com/; ComponentLink2Description: Datasheet; ComponentLink2URL: http://www.onsemi.cn/pub_link/Collateral/DTC114EP-D.PDF; ComponentLink3Description: Package Specification; ComponentLink3URL: http://www.onsemi.com/pub_link/Collateral/NTJD4001N-D.PDF
footprint ONSC-SOT-363-6-419B-02_W_V (SOT23, 6-Leads, Body 2x1.25mm, Pitch 0.65mm)
part A pins: 3 C, 4 E, 5 B
part B pins: 1 E, 2 B, 6 C

## SMUN5312DW1T1G
designator Q?
Complementary Bias Resistor Transistors, R1=22 kOhm, R2=22 kOhm, NPN and PNP Transistors, 6-Pin SOT-363, Pb-Free, Tape and Reel; Manufacturer: On Semiconductor; PartNumber: SMUN5312DW1T1G; hFE Min: 60; IC Continuous (A): 0.1; R1/R2 Typ: 1; V(BR)CEO Min (V): 50; DatasheetVersion: Rev. 0; PackageVersion: Rev. W, 01/2006; PackageReference: SOT-363-6-419B-02_W; PackageDescription: 6-Pin Small Outline Transistor, Body 2 x 1.25 mm, Pitch 0.65 mm; Supplier 1: Digi-Key; Supplier Part Number 1: SMUN5312DW1T1G-ND; Supplier 2: Mouser; Supplier Part Number 2: 863-SMUN5312DW1T1G; Packing: Tape and Reel; Polarity: Complementary; RoHS: TRUE; Mounting Technology: Surface Mount; ComponentLink1Description: Manufacturer URL; ComponentLink1URL: http://www.onsemi.com/; ComponentLink2Description: Datasheet; ComponentLink2URL: http://www.onsemi.cn/pub_link/Collateral/DTC124EP-D.PDF; ComponentLink3Description: Package Specification; ComponentLink3URL: http://www.onsemi.com/pub_link/Collateral/NTJD4001N-D.PDF
footprint ONSC-SOT-363-6-419B-02_W_V (SOT23, 6-Leads, Body 2x1.25mm, Pitch 0.65mm)
part A pins: 3 C, 4 E, 5 B
part B pins: 1 E, 2 B, 6 C

## SMUN5313DW1T1G
designator Q?
Complementary Bias Resistor Transistors, R1=47 kOhm, R2=47 kOhm, NPN and PNP Transistors, 6-Pin SOT-363, Pb-Free, Tape and Reel; Manufacturer: On Semiconductor; PartNumber: SMUN5313DW1T1G; hFE Min: 80; IC Continuous (A): 0.1; R1/R2 Typ: 1; V(BR)CEO Min (V): 50; DatasheetVersion: Rev. 1; PackageVersion: Rev. W, 01/2006; PackageReference: SOT-363-6-419B-02_W; PackageDescription: 6-Pin Small Outline Transistor, Body 2 x 1.25 mm, Pitch 0.65 mm; Supplier 1: Digi-Key; Supplier Part Number 1: SMUN5313DW1T1G-ND; Supplier 2: Newark; Supplier Part Number 2: 76T7382; Supplier 3: Mouser; Supplier Part Number 3: 863-SMUN5313DW1T1G; Packing: Tape and Reel; Polarity: Complementary; RoHS: TRUE; Mounting Technology: Surface Mount; ComponentLink1Description: Manufacturer URL; ComponentLink1URL: http://www.onsemi.com/; ComponentLink2Description: Datasheet; ComponentLink2URL: http://www.onsemi.cn/pub_link/Collateral/DTC144EP-D.PDF; ComponentLink3Description: Package Specification; ComponentLink3URL: http://www.onsemi.com/pub_link/Collateral/NTJD4001N-D.PDF
footprint ONSC-SOT-363-6-419B-02_W_V (SOT23, 6-Leads, Body 2x1.25mm, Pitch 0.65mm)
part A pins: 3 C, 4 E, 5 B
part B pins: 1 E, 2 B, 6 C

## SMUN5313DW1T3G
designator Q?
Complementary Bias Resistor Transistors, R1=47 kOhm, R2=47 kOhm, NPN and PNP Transistors, 6-Pin SOT-363, Pb-Free, Tape and Reel; Manufacturer: On Semiconductor; PartNumber: SMUN5313DW1T3G; Note: 0; hFE Min: 80; IC Continuous (A): 0.1; R1/R2 Typ: 1; V(BR)CEO Min (V): 50; DatasheetVersion: Rev. 1; PackageVersion: Rev. W, 01/2006; PackageReference: SOT-363-6-419B-02_W; PackageDescription: 6-Pin Small Outline Transistor, Body 2 x 1.25 mm, Pitch 0.65 mm; Packing: Tape and Reel; Polarity: Complementary; RoHS: TRUE; Mounting Technology: Surface Mount; ComponentLink1Description: Manufacturer URL; ComponentLink1URL: http://www.onsemi.com/; ComponentLink2Description: Datasheet; ComponentLink2URL: http://www.onsemi.cn/pub_link/Collateral/DTC144EP-D.PDF; ComponentLink3Description: Package Specification; ComponentLink3URL: http://www.onsemi.com/pub_link/Collateral/NTJD4001N-D.PDF
footprint ONSC-SOT-363-6-419B-02_W_V (SOT23, 6-Leads, Body 2x1.25mm, Pitch 0.65mm)
part A pins: 3 C, 4 E, 5 B
part B pins: 1 E, 2 B, 6 C

## SMUN5314DW1T1G
designator Q?
Complementary Bias Resistor Transistors, R1=10 kOhm, R2=47 kOhm, NPN and PNP Transistors, 6-Pin SOT-363, Pb-Free, Tape and Reel; Manufacturer: On Semiconductor; PartNumber: SMUN5314DW1T1G; hFE Min: 80; IC Continuous (A): 0.1; R1/R2 Typ: 0.21; V(BR)CEO Min (V): 50; DatasheetVersion: Rev. 0; PackageVersion: Rev. W, 01/2006; PackageReference: SOT-363-6-419B-02_W; PackageDescription: 6-Pin Small Outline Transistor, Body 2 x 1.25 mm, Pitch 0.65 mm; Supplier 1: Digi-Key; Supplier Part Number 1: SMUN5314DW1T1G-ND; Supplier 2: Mouser; Supplier Part Number 2: 863-SMUN5314DW1T1G; Packing: Tape and Reel; Polarity: Complementary; RoHS: TRUE; Mounting Technology: Surface Mount; ComponentLink1Description: Manufacturer URL; ComponentLink1URL: http://www.onsemi.com/; ComponentLink2Description: Datasheet; ComponentLink2URL: http://www.onsemi.cn/pub_link/Collateral/DTC114YP-D.PDF; ComponentLink3Description: Package Specification; ComponentLink3URL: http://www.onsemi.com/pub_link/Collateral/NTJD4001N-D.PDF
footprint ONSC-SOT-363-6-419B-02_W_V (SOT23, 6-Leads, Body 2x1.25mm, Pitch 0.65mm)
part A pins: 3 C, 4 E, 5 B
part B pins: 1 E, 2 B, 6 C

## SMUN5315DW1T1G
designator Q?
Complementary Bias Resistor Transistors, R1=10 kOhm, R2=infinity kOhm, NPN and PNP Transistors, 6-Pin SOT-363, Pb-Free, Tape and Reel; Manufacturer: On Semiconductor; PartNumber: SMUN5315DW1T1G; hFE Min: 160; IC Continuous (A): 0.1; V(BR)CEO Min (V): 50; DatasheetVersion: Rev. 0; PackageVersion: Rev. W, 01/2006; PackageReference: SOT-363-6-419B-02_W; PackageDescription: 6-Pin Small Outline Transistor, Body 2 x 1.25 mm, Pitch 0.65 mm; Supplier 1: Digi-Key; Supplier Part Number 1: SMUN5315DW1T1G-ND; Supplier 2: Mouser; Supplier Part Number 2: 863-SMUN5315DW1T1G; Packing: Tape and Reel; Polarity: Complementary; RoHS: TRUE; Mounting Technology: Surface Mount; ComponentLink1Description: Manufacturer URL; ComponentLink1URL: http://www.onsemi.com/; ComponentLink2Description: Datasheet; ComponentLink2URL: http://www.onsemi.cn/pub_link/Collateral/DTC114TP-D.PDF; ComponentLink3Description: Package Specification; ComponentLink3URL: http://www.onsemi.com/pub_link/Collateral/NTJD4001N-D.PDF
footprint ONSC-SOT-363-6-419B-02_W_V (SOT23, 6-Leads, Body 2x1.25mm, Pitch 0.65mm)
part A pins: 3 C, 4 E, 5 B
part B pins: 1 E, 2 B, 6 C

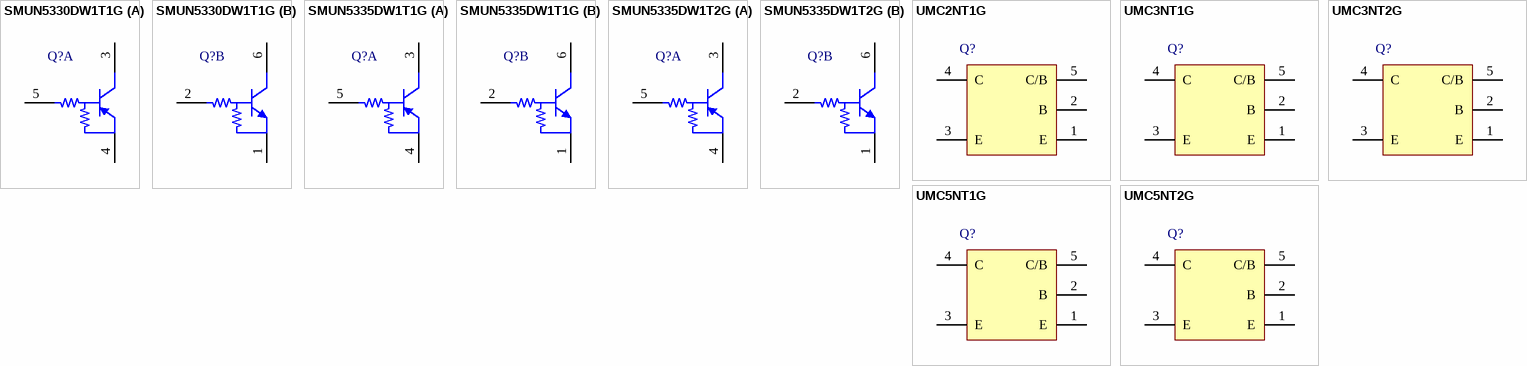
[diagram p16: symbols SMUN5330DW1T1G to UMC5NT2G]

## SMUN5330DW1T1G
designator Q?
Complementary NPN and PNP Transistors, R1=1 kOhm, R2=1 kOhm, 6-Pin SOT-363, Pb-Free, Tape and Reel; Manufacturer: On Semiconductor; PartNumber: SMUN5330DW1T1G; hFE Min: 3; IC Continuous (A): 0.1; R1/R2 Typ: 1; V(BR)CEO Min (V): 50; DatasheetVersion: Rev. 2; PackageVersion: Rev. Y, 12/2012; PackageReference: SOT-363-6-419B-02; PackageDescription: 6-Pin Small Outline Transistor, Body 2 x 1.25 mm, Pitch 0.65 mm; Supplier 1: Digi-Key; Supplier Part Number 1: SMUN5330DW1T1G-ND; Supplier 2: Mouser; Supplier Part Number 2: 863-SMUN5330DW1T1G; Packing: Tape and Reel; Polarity: Complementary; RoHS: TRUE; Mounting Technology: Surface Mount; ComponentLink1Description: Manufacturer URL; ComponentLink1URL: http://www.onsemi.com/; ComponentLink2Description: Datasheet; ComponentLink2URL: http://www.onsemi.cn/pub_link/Collateral/DTC113EP-D.PDF; ComponentLink3Description: Package Specification; ComponentLink3URL: http://www.onsemi.cn/pub_link/Collateral/419B-02.PDF
footprint ONSC-SOT-363-6-419B-02_V (SOT23, 6-Leads, Body 2x1.25mm, Pitch 0.65mm)
part A pins: 3 C, 4 E, 5 B
part B pins: 1 E, 2 B, 6 C

## SMUN5335DW1T1G
designator Q?
Complementary Bias Resistor Transistors, R1=2.2 kOhm, R2=47 kOhm, NPN and PNP Transistors, 6-Pin SOT-363, Pb-Free, Tape and Reel; Manufacturer: On Semiconductor; PartNumber: SMUN5335DW1T1G; hFE Min: 80; IC Continuous (A): 0.1; R1/R2 Typ: 0.047; V(BR)CEO Min (V): 50; DatasheetVersion: Rev. 0; PackageVersion: Rev. W, 01/2006; PackageReference: SOT-363-6-419B-02_W; PackageDescription: 6-Pin Small Outline Transistor, Body 2 x 1.25 mm, Pitch 0.65 mm; Supplier 1: Digi-Key; Supplier Part Number 1: SMUN5335DW1T1G-ND; Supplier 2: Mouser; Supplier Part Number 2: 863-SMUN5335DW1T1G; Packing: Tape and Reel; Polarity: Complementary; RoHS: TRUE; Mounting Technology: Surface Mount; ComponentLink1Description: Manufacturer URL; ComponentLink1URL: http://www.onsemi.com/; ComponentLink2Description: Datasheet; ComponentLink2URL: http://www.onsemi.cn/pub_link/Collateral/DTC123JP-D.PDF; ComponentLink3Description: Package Specification; ComponentLink3URL: http://www.onsemi.com/pub_link/Collateral/NTJD4001N-D.PDF
footprint ONSC-SOT-363-6-419B-02_W_V (SOT23, 6-Leads, Body 2x1.25mm, Pitch 0.65mm)
part A pins: 3 C, 4 E, 5 B
part B pins: 1 E, 2 B, 6 C

## SMUN5335DW1T2G
designator Q?
Complementary Bias Resistor Transistors, R1=2.2 kOhm, R2=47 kOhm, NPN and PNP Transistors, 6-Pin SOT-363, Pb-Free, Tape and Reel; Manufacturer: On Semiconductor; PartNumber: SMUN5335DW1T2G; hFE Min: 80; IC Continuous (A): 0.1; R1/R2 Typ: 0.047; V(BR)CEO Min (V): 50; DatasheetVersion: Rev. 0; PackageVersion: Rev. W, 01/2006; PackageReference: SOT-363-6-419B-02_W; PackageDescription: 6-Pin Small Outline Transistor, Body 2 x 1.25 mm, Pitch 0.65 mm; Supplier 1: Digi-Key; Supplier Part Number 1: SMUN5335DW1T2G-ND; Supplier 2: Mouser; Supplier Part Number 2: 863-SMUN5335DW1T2G; Packing: Tape and Reel; Polarity: Complementary; RoHS: TRUE; Mounting Technology: Surface Mount; ComponentLink1Description: Manufacturer URL; ComponentLink1URL: http://www.onsemi.com/; ComponentLink2Description: Datasheet; ComponentLink2URL: http://www.onsemi.cn/pub_link/Collateral/DTC123JP-D.PDF; ComponentLink3Description: Package Specification; ComponentLink3URL: http://www.onsemi.com/pub_link/Collateral/NTJD4001N-D.PDF
footprint ONSC-SOT-363-6-419B-02_W_V (SOT23, 6-Leads, Body 2x1.25mm, Pitch 0.65mm)
part A pins: 3 C, 4 E, 5 B
part B pins: 1 E, 2 B, 6 C

## UMC2NT1G
designator Q?
Dual Common Base-Collector Bias Resistor Transistors, NPN and PNP Silicon Surface Mount Transistors, 5-Pin SC70, Pb-Free, Tape and Reel; Manufacturer: On Semiconductor; PartNumber: UMC2NT1G; hFE Min: 60; IC Continuous (A): 0.1; Polarity: Complementary; R1/R2 Typ: 1; V(BR)CEO Min (V): 50; DatasheetVersion: Rev. 10; PackageVersion: Rev. L, 01/2013; PackageReference: SC70-5-419A-02; PackageDescription: 5-Pin Small Outline Transistor, Body 2 x 1.25 mm, Pitch 0.65 mm; Supplier 1: Digi-Key; Supplier Part Number 1: UMC2NT1GOS-ND; Supplier 2: Mouser; Supplier Part Number 2: 863-UMC2NT1G; Packing: Tape and Reel; RoHS: TRUE; Mounting Technology: Surface Mount; ComponentLink1Description: Manufacturer URL; ComponentLink1URL: http://www.onsemi.com/; ComponentLink2Description: Datasheet; ComponentLink2URL: http://www.onsemi.cn/pub_link/Collateral/UMC2NT1-D.PDF; ComponentLink3Description: Package Specification; ComponentLink3URL: http://www.onsemi.cn/pub_link/Collateral/419A-02.PDF
footprint ONSC-SC70-5-419A-02_V (SOT23, 5-Leads, Body 2x1.25mm, Pitch 0.65mm)
pins: 1 E, 2 B, 3 E, 4 C, 5 C/B

## UMC3NT1G
designator Q?
Dual Common Base-Collector Bias Resistor Transistors, NPN and PNP Silicon Surface Mount Transistors, 5-Pin SC70, Pb-Free, Tape and Reel; Manufacturer: On Semiconductor; PartNumber: UMC3NT1G; hFE Min: 35; IC Continuous (A): 0.1; Polarity: Complementary; R1/R2 Typ: 1; V(BR)CEO Min (V): 50; DatasheetVersion: Rev. 10; PackageVersion: Rev. L, 01/2013; PackageReference: SC70-5-419A-02; PackageDescription: 5-Pin Small Outline Transistor, Body 2 x 1.25 mm, Pitch 0.65 mm; Supplier 1: Digi-Key; Supplier Part Number 1: UMC3NT1GOS-ND; Supplier 2: Newark; Supplier Part Number 2: 45J2392; Supplier 3: Mouser; Supplier Part Number 3: 863-UMC3NT1G; Packing: Tape and Reel; RoHS: TRUE; Mounting Technology: Surface Mount; ComponentLink1Description: Manufacturer URL; ComponentLink1URL: http://www.onsemi.com/; ComponentLink2Description: Datasheet; ComponentLink2URL: http://www.onsemi.cn/pub_link/Collateral/UMC2NT1-D.PDF; ComponentLink3Description: Package Specification; ComponentLink3URL: http://www.onsemi.cn/pub_link/Collateral/419A-02.PDF
footprint ONSC-SC70-5-419A-02_V (SOT23, 5-Leads, Body 2x1.25mm, Pitch 0.65mm)
pins: 1 E, 2 B, 3 E, 4 C, 5 C/B

## UMC3NT2G
designator Q?
Dual Common Base-Collector Bias Resistor Transistors, NPN and PNP Silicon Surface Mount Transistors, 5-Pin SC70, Pb-Free, Tape and Reel; Manufacturer: On Semiconductor; PartNumber: UMC3NT2G; hFE Min: 35; IC Continuous (A): 0.1; Polarity: Complementary; R1/R2 Typ: 1; V(BR)CEO Min (V): 50; DatasheetVersion: Rev. 10; PackageVersion: Rev. L, 01/2013; PackageReference: SC70-5-419A-02; PackageDescription: 5-Pin Small Outline Transistor, Body 2 x 1.25 mm, Pitch 0.65 mm; Supplier 1: Mouser; Supplier Part Number 1: 863-UMC3NT2G; Packing: Tape and Reel; RoHS: TRUE; Mounting Technology: Surface Mount; ComponentLink1Description: Manufacturer URL; ComponentLink1URL: http://www.onsemi.com/; ComponentLink2Description: Datasheet; ComponentLink2URL: http://www.onsemi.cn/pub_link/Collateral/UMC2NT1-D.PDF; ComponentLink3Description: Package Specification; ComponentLink3URL: http://www.onsemi.cn/pub_link/Collateral/419A-02.PDF
footprint ONSC-SC70-5-419A-02_V (SOT23, 5-Leads, Body 2x1.25mm, Pitch 0.65mm)
pins: 1 E, 2 B, 3 E, 4 C, 5 C/B

## UMC5NT1G
designator Q?
Dual Common Base-Collector Bias Resistor Transistors, NPN and PNP Silicon Surface Mount Transistors, 5-Pin SC70, Pb-Free, Tape and Reel; Manufacturer: On Semiconductor; PartNumber: UMC5NT1G; hFE Min: 20; IC Continuous (A): 0.1; Polarity: Complementary; R1/R2 Typ: 0.47; V(BR)CEO Min (V): 50; DatasheetVersion: Rev. 10; PackageVersion: Rev. L, 01/2013; PackageReference: SC70-5-419A-02; PackageDescription: 5-Pin Small Outline Transistor, Body 2 x 1.25 mm, Pitch 0.65 mm; Supplier 1: Digi-Key; Supplier Part Number 1: UMC5NT1GOSTR-ND; Supplier 2: Digi-Key; Supplier Part Number 2: UMC5NT1GOSCT-ND; Supplier 3: Digi-Key; Supplier Part Number 3: UMC5NT1GOSDKR-ND; Supplier 4: Newark; Supplier Part Number 4: 26K5231; Supplier 5: Mouser; Supplier Part Number 5: 863-UMC5NT1G; Packing: Tape and Reel; RoHS: TRUE; Mounting Technology: Surface Mount; ComponentLink1Description: Manufacturer URL; ComponentLink1URL: http://www.onsemi.com/; ComponentLink2Description: Datasheet; ComponentLink2URL: http://www.onsemi.cn/pub_link/Collateral/UMC2NT1-D.PDF; ComponentLink3Description: Package Specification; ComponentLink3URL: http://www.onsemi.cn/pub_link/Collateral/419A-02.PDF
footprint ONSC-SC70-5-419A-02_V (SOT23, 5-Leads, Body 2x1.25mm, Pitch 0.65mm)
pins: 1 E, 2 B, 3 E, 4 C, 5 C/B

## UMC5NT2G
designator Q?
Dual Common Base-Collector Bias Resistor Transistors, NPN and PNP Silicon Surface Mount Transistors, 5-Pin SC70, Pb-Free, Tape and Reel; Manufacturer: On Semiconductor; PartNumber: UMC5NT2G; hFE Min: 20; IC Continuous (A): 0.1; Polarity: Complementary; R1/R2 Typ: 0.47; V(BR)CEO Min (V): 50; DatasheetVersion: Rev. 10; PackageVersion: Rev. L, 01/2013; PackageReference: SC70-5-419A-02; PackageDescription: 5-Pin Small Outline Transistor, Body 2 x 1.25 mm, Pitch 0.65 mm; Supplier 1: Digi-Key; Supplier Part Number 1: UMC5NT2GOSTR-ND; Supplier 2: Digi-Key; Supplier Part Number 2: UMC5NT2GOSCT-ND; Supplier 3: Mouser; Supplier Part Number 3: 863-UMC5NT2G; Packing: Tape and Reel; RoHS: TRUE; Mounting Technology: Surface Mount; ComponentLink1Description: Manufacturer URL; ComponentLink1URL: http://www.onsemi.com/; ComponentLink2Description: Datasheet; ComponentLink2URL: http://www.onsemi.cn/pub_link/Collateral/UMC2NT1-D.PDF; ComponentLink3Description: Package Specification; ComponentLink3URL: http://www.onsemi.cn/pub_link/Collateral/419A-02.PDF
footprint ONSC-SC70-5-419A-02_V (SOT23, 5-Leads, Body 2x1.25mm, Pitch 0.65mm)
pins: 1 E, 2 B, 3 E, 4 C, 5 C/B